# EAGLE library part LT1251 (library jason_eagle6)
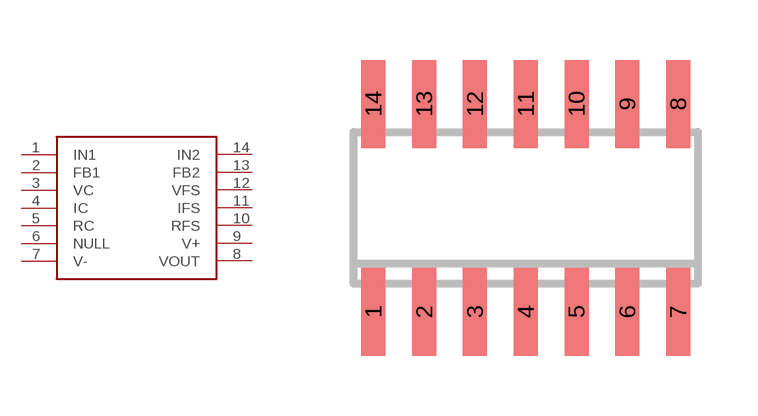
[diagram p45: symbol with the pads of SO14; footprint SO14]

Designator prefix -

## LT1251  [SO14]
1  IN1
2  FB1
3  VC
4  IC
5  RC
6  NULL
7  V-
8  VOUT
9  V+
10  RFS
11  IFS
12  VFS
13  FB2
14  IN2

## Footprint SO14 (pad centres in mm)
Small Outline Package 14
smd 0.6 x 2.2: 1 -3.81,-2.6; 2 -2.54,-2.6; 3 -1.27,-2.6; 4 0,-2.6; 5 1.27,-2.6; 6 2.54,-2.6; 7 3.81,-2.6; 8 3.81,2.6; 9 2.54,2.6; 10 1.27,2.6; 11 0,2.6; 12 -1.27,2.6; 13 -2.54,2.6; 14 -3.81,2.6